# Altium schematic symbol library Relay.SchLib: 5 symbols
Pins are listed as number, name and electrical type; pins without a type are passive.

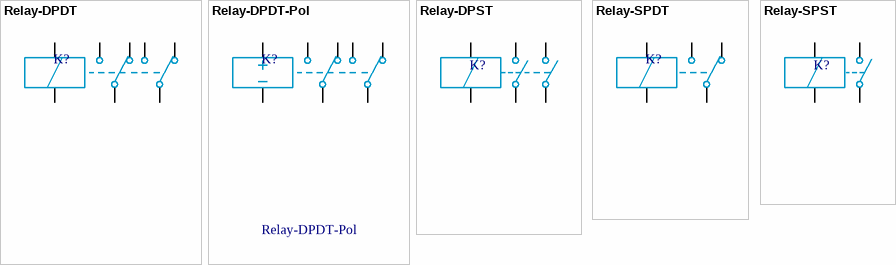
[diagram p0: symbols Relay-DPDT to Relay-SPST]

## Relay-DPDT
designator K?
Dual-Pole Dual-Throw Relay; Published: 24-Mar-1999; LatestRevisionDate: 17-Jul-2002; LatestRevisionNote: Re-released for DXP Platform.; PackageReference: DIP-P8; Publisher: Altium Limited; PackageDescription: Relay; 8 Leads
footprint HRS2H-S (Signal Relay)
footprint HRJ1-2C
footprint HJQ-13F
pins: C1, C2, COM1, COM2, NC1, NC2, NO1, NO2

## Relay-DPDT-Pol
designator K?
Polarized Dual-Pole Dual-Throw Relay; Published: 24-Mar-1999; LatestRevisionDate: 17-Jul-2002; LatestRevisionNote: Re-released for DXP Platform.; PackageReference: DIP-P8; Publisher: Altium Limited; PackageDescription: Relay; 8 Leads
footprint T40
pins: C+, C-, COM1, COM2, NC1, NC2, NO1, NO2

## Relay-DPST
designator K?
Dual-Pole Single-Throw Relay; Published: 24-Mar-1999; LatestRevisionDate: 17-Jul-2002; LatestRevisionNote: Re-released for DXP Platform.; PackageReference: MODULE6; Publisher: Altium Limited
footprint HRJ1-2C
footprint HRS2H-S (Signal Relay)
pins: C1, C2, COM1, COM2, NO1, NO2

## Relay-SPDT
designator K?
Single-Pole Dual-Throw Relay; Published: 24-Mar-1999; LatestRevisionDate: 17-Jul-2002; LatestRevisionNote: Re-released for DXP Platform.; PackageReference: MODULE5B; Publisher: Altium Limited
footprint G2R-1
footprint ALQ124 (Panasonic ALQ Form C Relay)
footprint NT90TNCE
footprint HRS4H
pins: C1, C2, COM, NC, NO

## Relay-SPST
designator K?
Single-Pole Single-Throw Relay; Published: 24-Mar-1999; LatestRevisionDate: 17-Jul-2002; LatestRevisionNote: Re-released for DXP Platform.; PackageReference: MODULE4; Publisher: Altium Limited
footprint PA1A (PA1A RElay)
pins: C1, C2, COM, NO